# EAGLE library part 88SA8040 (library JLB6_Processor)
Marvell 88sa8040 Sata bridge
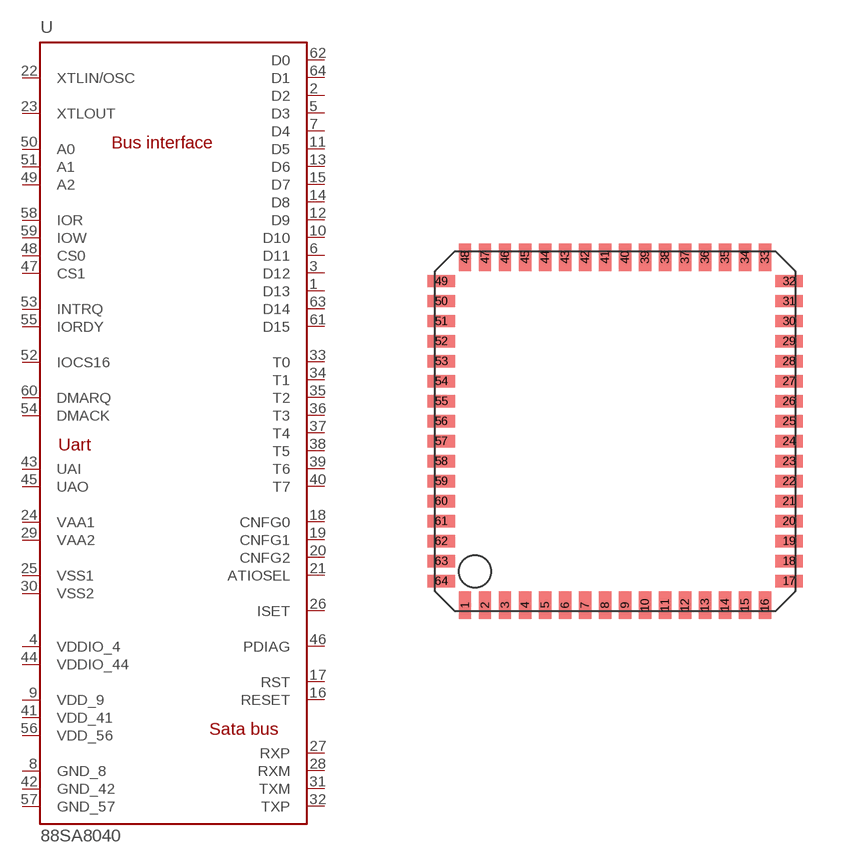
[diagram p21: symbol with the pads of QFN64; footprint QFN64]

Designator prefix U

## 88SA8040  [QFN64]
1  D13
2  D2
3  D12
4  VDDIO_4
5  D3
6  D11
7  D4
8  GND_8
9  VDD_9
10  D10
11  D5
12  D9
13  D6
14  D8
15  D7
16  RESET
17  RST
18  CNFG0
19  CNFG1
20  CNFG2
21  ATIOSEL
22  XTLIN/OSC
23  XTLOUT
24  VAA1
25  VSS1
26  ISET
27  RXP
28  RXM
29  VAA2
30  VSS2
31  TXM
32  TXP
33  T0
34  T1
35  T2
36  T3
37  T4
38  T5
39  T6
40  T7
41  VDD_41
42  GND_42
43  UAI
44  VDDIO_44
45  UAO
46  PDIAG
47  CS1
48  CS0
49  A2
50  A0
51  A1
52  IOCS16
53  INTRQ
54  DMACK
55  IORDY
56  VDD_56
57  GND_57
58  IOR
59  IOW
60  DMARQ
61  D15
62  D0
63  D14
64  D1

## Footprint QFN64 (pad centres in mm)
smd 0.3 x 0.7: 1 -3.75,-4.35; 2 -3.25,-4.35; 3 -2.75,-4.35; 4 -2.25,-4.35; 5 -1.75,-4.35; 6 -1.25,-4.35; 7 -0.75,-4.35; 8 -0.25,-4.35; 9 0.25,-4.35; 10 0.75,-4.35; 11 1.25,-4.35; 12 1.75,-4.35; 13 2.25,-4.35; 14 2.75,-4.35; 15 3.25,-4.35; 16 3.75,-4.35; 33 3.75,4.35; 34 3.25,4.35; 35 2.75,4.35; 36 2.25,4.35; 37 1.75,4.35; 38 1.25,4.35; 39 0.75,4.35; 40 0.25,4.35; 41 -0.25,4.35; 42 -0.75,4.35; 43 -1.25,4.35; 44 -1.75,4.35; 45 -2.25,4.35; 46 -2.75,4.35; 47 -3.25,4.35; 48 -3.75,4.35
smd 0.7 x 0.3: 17 4.35,-3.75; 18 4.35,-3.25; 19 4.35,-2.75; 20 4.35,-2.25; 21 4.35,-1.75; 22 4.35,-1.25; 23 4.35,-0.75; 24 4.35,-0.25; 25 4.35,0.25; 26 4.35,0.75; 27 4.35,1.25; 28 4.35,1.75; 29 4.35,2.25; 30 4.35,2.75; 31 4.35,3.25; 32 4.35,3.75; 49 -4.35,3.75; 50 -4.35,3.25; 51 -4.35,2.75; 52 -4.35,2.25; 53 -4.35,1.75; 54 -4.35,1.25; 55 -4.35,0.75; 56 -4.35,0.25; 57 -4.35,-0.25; 58 -4.35,-0.75; 59 -4.35,-1.25; 60 -4.35,-1.75; 61 -4.35,-2.25; 62 -4.35,-2.75; 63 -4.35,-3.25; 64 -4.35,-3.75